# Altium footprint library 主控制.PcbLib: 139 footprints (part 9 of 9)
Each footprint in its own frame and in the unit in brackets; x right, y up, seen from the top. Pads: shape width x height; smd on the part's side, far side on the other; paste and mask are expansions set on the pad; w line width, h text height; cw(c..) or ccw(c..) is an arc to the next point about the centre after c.
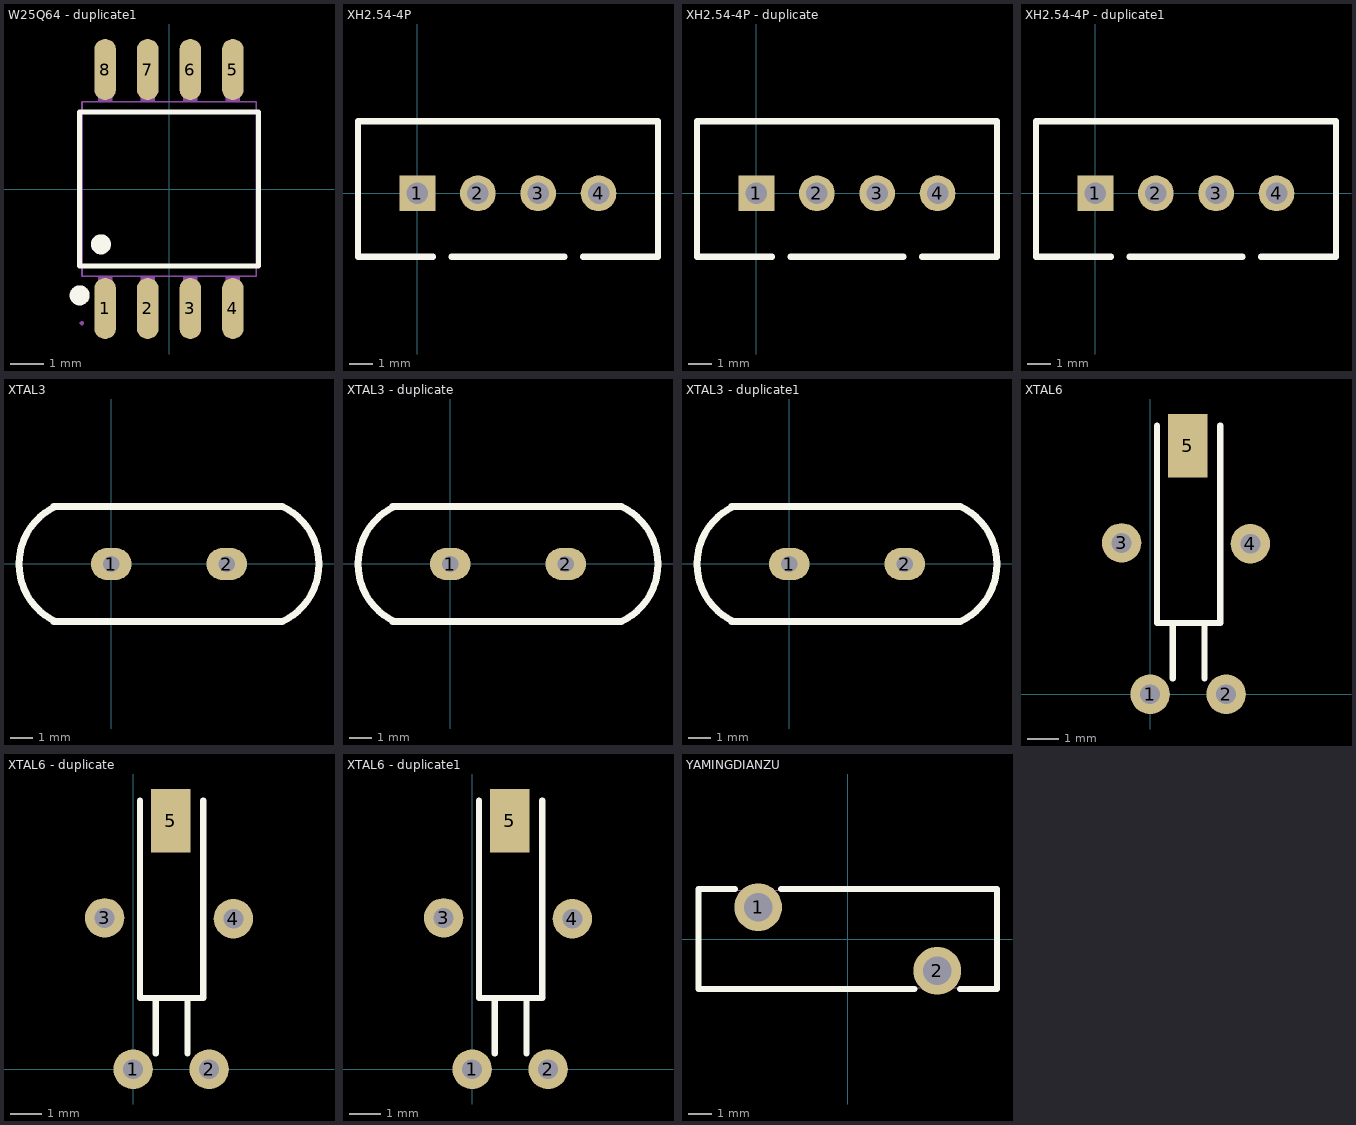
[diagram p8: the footprints below, top view; thin cyan lines are the x and y axes]

## W25Q64 - duplicate1 [mm]
pads (8):
  oval 0.65x1.822 smd: 1(-1.905,-3.566) 2(-0.635,-3.566) 3(0.635,-3.566) 4(1.905,-3.566) 5(1.905,3.566) 6(0.635,3.566) 7(-0.635,3.566) 8(-1.905,3.566)
Top Overlay:
  circle w0.3: c-2.667,-3.175 r0.15
  circle w0.3: c-2.032,-1.651 r0.15
  lines w0.152: -2.676,-2.295 2.676,-2.295 2.676,2.295 -2.676,2.295 -2.676,-2.295
Mechanical 6:
  circle w0.3: c-1.905,-3.048 r0.15
Mechanical 15:
  region: -1.695,3.39 -1.695,2.59 -2.115,2.59 -2.115,3.39
  region: -1.695,4 -1.695,3.38 -2.115,3.38 -2.115,4
  region: -0.425,3.39 -0.425,2.59 -0.845,2.59 -0.845,3.39
  region: -0.425,4 -0.425,3.38 -0.845,3.38 -0.845,4
  region: 0.845,3.39 0.845,2.59 0.425,2.59 0.425,3.39
  region: 0.845,4 0.845,3.38 0.425,3.38 0.425,4
  region: 2.115,3.39 2.115,2.59 1.695,2.59 1.695,3.39
  region: 2.115,4 2.115,3.38 1.695,3.38 1.695,4
  region: 2.115,-3.39 2.115,-2.59 1.695,-2.59 1.695,-3.39
  region: 2.115,-4 2.115,-3.38 1.695,-3.38 1.695,-4
  region: 0.845,-3.39 0.845,-2.59 0.425,-2.59 0.425,-3.39
  region: 0.845,-4 0.845,-3.38 0.425,-3.38 0.425,-4
  region: -0.425,-3.39 -0.425,-2.59 -0.845,-2.59 -0.845,-3.39
  region: -0.425,-4 -0.425,-3.38 -0.845,-3.38 -0.845,-4
  region: -1.695,-3.39 -1.695,-2.59 -2.115,-2.59 -2.115,-3.39
  region: -1.695,-4 -1.695,-3.38 -2.115,-3.38 -2.115,-4
  region: -2.54,-4 -2.54,-3.975 -2.575,-3.94 -2.625,-3.94 -2.66,-3.975 -2.66,-4 -2.66,-4.025 -2.625,-4.06 -2.575,-4.06 -2.54,-4.025
  lines w0.051: -2.6,-2.6 2.6,-2.6 2.6,2.6 -2.6,2.6 -2.6,-2.6

## XH2.54-4P [mm]
height 7
pads (4):
  rect 1.5x1.5 hole 0.9: 1(0,0)
  round 1.5 hole 0.9: 2(2.54,0) 3(5.08,0) 4(7.62,0)
Top Overlay:
  lines w0.254: 0.655,-2.67 -2.5,-2.67 -2.5,3.03 10.12,3.03 10.12,-2.67 6.965,-2.67 ; 1.439,-2.67 6.181,-2.67

## XH2.54-4P - duplicate [mm]
pads (4):
  rect 1.5x1.5 hole 0.9: 1(0,0)
  round 1.5 hole 0.9: 2(2.54,0) 3(5.08,0) 4(7.62,0)
Top Overlay:
  lines w0.254: 0.655,-2.67 -2.5,-2.67 -2.5,3.03 10.12,3.03 10.12,-2.67 6.965,-2.67 ; 1.439,-2.67 6.181,-2.67

## XH2.54-4P - duplicate1 [mm]
pads (4):
  rect 1.5x1.5 hole 0.9: 1(0,0)
  round 1.5 hole 0.9: 2(2.54,0) 3(5.08,0) 4(7.62,0)
Top Overlay:
  lines w0.254: 0.655,-2.67 -2.5,-2.67 -2.5,3.03 10.12,3.03 10.12,-2.67 6.965,-2.67 ; 1.439,-2.67 6.181,-2.67

## XTAL3 [mm]
pads (2):
  oval 1.8x1.4 hole 0.711: 1(0,0) 2(5.08,0)
Top Overlay:
  lines w0.305: -2.54,-2.54 7.518,-2.54 ; -2.54,2.54 7.518,2.54 ; -2.451,-2.532 cw(c-1.27,0) -2.451,2.532 ; 7.531,-2.532 ccw(c6.35,0) 7.531,2.532

## XTAL3 - duplicate [mm]
pads (2):
  oval 1.8x1.4 hole 0.711: 1(0,0) 2(5.08,0)
Top Overlay:
  lines w0.305: -2.54,-2.54 7.518,-2.54 ; -2.54,2.54 7.518,2.54 ; -2.451,-2.532 cw(c-1.27,0) -2.451,2.532 ; 7.531,-2.532 ccw(c6.35,0) 7.531,2.532

## XTAL3 - duplicate1 [mm]
pads (2):
  oval 1.8x1.4 hole 0.711: 1(0,0) 2(5.08,0)
Top Overlay:
  lines w0.305: -2.54,-2.54 7.518,-2.54 ; -2.54,2.54 7.518,2.54 ; -2.451,-2.532 cw(c-1.27,0) -2.451,2.532 ; 7.531,-2.532 ccw(c6.35,0) 7.531,2.532

## XTAL6 [mil]
pads (5):
  round 50 hole 25: 1(0,0) 2(96.06,0) 3(-36.09,191.39) 4(126.91,190.39)
  rect 50x80 smd: 5(47.91,314.39)
Top Overlay:
  lines w7.87: 8.69,340 8.69,90 88.69,90 88.69,340 ; 28.69,20 28.69,90 ; 68.69,20 68.69,90

## XTAL6 - duplicate [mil]
pads (5):
  round 50 hole 25: 1(0,0) 2(96.06,0) 3(-36.09,191.39) 4(126.91,190.39)
  rect 50x80 smd: 5(47.91,314.39)
Top Overlay:
  lines w7.87: 8.69,340 8.69,90 88.69,90 88.69,340 ; 28.69,20 28.69,90 ; 68.69,20 68.69,90

## XTAL6 - duplicate1 [mil]
pads (5):
  round 50 hole 25: 1(0,0) 2(96.06,0) 3(-36.09,191.39) 4(126.91,190.39)
  rect 50x80 smd: 5(47.91,314.39)
Top Overlay:
  lines w7.87: 8.69,340 8.69,90 88.69,90 88.69,340 ; 28.69,20 28.69,90 ; 68.69,20 68.69,90

## YAMINGDIANZU [mm]
pads (2):
  round 2 hole 1.2: 1(-3.75,1.33) 2(3.75,-1.33)
Top Overlay:
  lines w0.254: -5.266,2.1 -4.71,2.1 ; -4.981,2.1 -6.25,2.1 -6.25,-2.1 2.519,-2.1 ; -2.79,2.1 -2.286,2.1 6.25,2.1 6.25,-2.1 ; 2.1,-2.1 2.79,-2.1 ; 4.71,-2.1 4.981,-2.1 6.223,-2.1
Mechanical 15:
  region: 4.125,-1.33 4.124,-1.256 4.067,-1.119 3.961,-1.015 3.824,-0.958 3.676,-0.958 3.539,-1.015 3.433,-1.119 3.376,-1.256 3.375,-1.33 3.376,-1.404 3.433,-1.541 3.539,-1.645 3.676,-1.702 3.824,-1.702 3.961,-1.645 4.067,-1.541 4.124,-1.404
  region: -3.375,1.33 -3.376,1.404 -3.433,1.541 -3.539,1.645 -3.676,1.702 -3.824,1.702 -3.961,1.645 -4.067,1.541 -4.124,1.404 -4.125,1.33 -4.124,1.256 -4.067,1.119 -3.961,1.015 -3.824,0.958 -3.676,0.958 -3.539,1.015 -3.433,1.119 -3.376,1.256
  region: -6.19,2.05 -6.19,2.075 -6.225,2.11 -6.275,2.11 -6.31,2.075 -6.31,2.05 -6.31,2.025 -6.275,1.99 -6.225,1.99 -6.19,2.025
  lines w0.051: -6.25,-2.05 6.25,-2.05 6.25,2.05 -6.25,2.05 -6.25,-2.05